# Altium footprint library QFN50P350X250X100_HS-17N.PcbLib: 1 footprints
Each footprint in its own frame and in the unit in brackets; x right, y up, seen from the top. Pads: shape width x height; smd on the part's side, far side on the other; paste and mask are expansions set on the pad; w line width, h text height; cw(c..) or ccw(c..) is an arc to the next point about the centre after c.
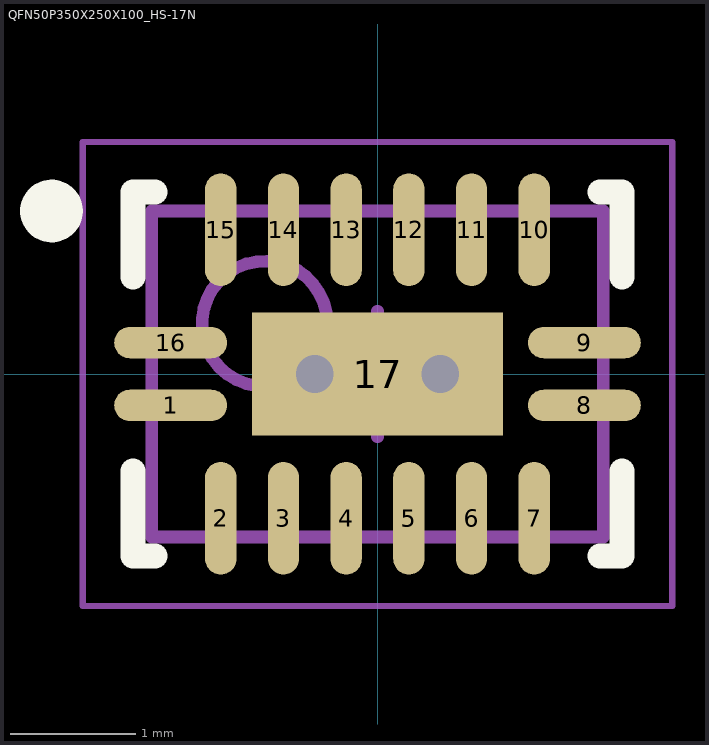
[diagram p0: the footprint, top view; thin cyan lines are the x and y axes]

## QFN50P350X250X100_HS-17N [mm] "QFN, 16-Leads, Body 3.50x2.50mm, Pitch 0.50mm, Thermal Pad 2.00x0.98mm, IPC Medium Density"
height 1
pads (17):
  oval 0.9x0.25 smd mask+0.05: 1(-1.65,-0.25) 8(1.65,-0.25) 9(1.65,0.25) 16(-1.65,0.25)
  oval 0.25x0.9 smd mask+0.05: 2(-1.25,-1.15) 3(-0.75,-1.15) 4(-0.25,-1.15) 5(0.25,-1.15) 6(0.75,-1.15) 7(1.25,-1.15) 10(1.25,1.15) 11(0.75,1.15) 12(0.25,1.15) 13(-0.25,1.15) 14(-0.75,1.15) 15(-1.25,1.15)
  rect 2x0.98 smd mask+0.05: 17(0,0)
via 0.5,0 diameter 0.6 hole 0.3
via -0.5,0 diameter 0.6 hole 0.3
Top Overlay:
  circle w0.25: c-2.6,1.3 r0.125
  lines w0.2: -1.95,-0.775 -1.95,-1.45 -1.775,-1.45 ; -1.95,0.775 -1.95,1.45 -1.775,1.45 ; 1.775,-1.45 1.95,-1.45 1.95,-0.775 ; 1.775,1.45 1.95,1.45 1.95,0.775
Top Assembly:
  circle w0.1: c-0.9,0.4 r0.5
  lines w0.1: -1.8,-1.3 -1.8,1.3 1.8,1.3 1.8,-1.3 -1.8,-1.3
Top Courtyard:
  lines w0.05: -2.35,-1.85 -2.35,1.85 2.35,1.85 2.35,-1.85 -2.35,-1.85
  lines w0.1: -0.5,0 0.5,0 ; 0,-0.5 0,0.5
3D body "QFN50P350X250X100_HS-17N.step": height 1, standoff 0, extent -1.85,-1.35 1.85,1.35